# Altium footprint library Connector_Footprints.PcbLib: 18 footprints (part 2 of 2)
Each footprint in its own frame and in the unit in brackets; x right, y up, seen from the top. Pads: shape width x height; smd on the part's side, far side on the other; paste and mask are expansions set on the pad; w line width, h text height; cw(c..) or ccw(c..) is an arc to the next point about the centre after c.
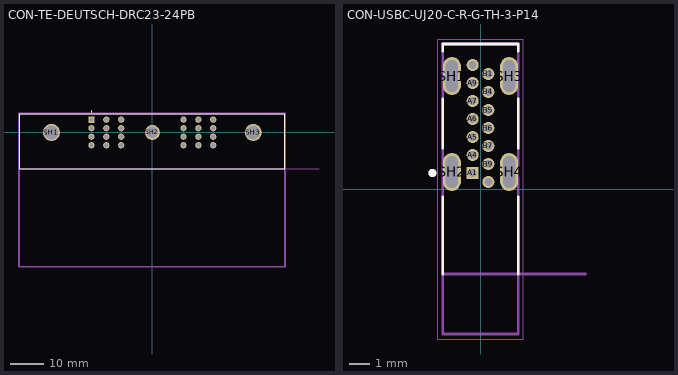
[diagram p1: the footprints below, top view; thin cyan lines are the x and y axes]

## CON-TE-DEUTSCH-DRC23-24PB [mm]
height 38.1
pads (27):
  rect 1.86x1.86 / inner round 1.86 / far side rect 1.86x1.86 hole 1.24: 1(-18.11,3.81)
  round 1.86 hole 1.24: 2(-13.69,3.81) 3(-9.27,3.81) 4(9.27,3.81) 5(13.69,3.81) 6(18.11,3.81) 7(-18.11,1.27) 8(-13.69,1.27) 9(-9.27,1.27) 10(9.27,1.27) 11(13.69,1.27) 12(18.11,1.27) 13(-18.11,-1.27) 14(-13.69,-1.27) 15(-9.27,-1.27) 16(9.27,-1.27) 17(13.69,-1.27) 18(18.11,-1.27) 19(-18.11,-3.81) 20(-13.69,-3.81) 21(-9.27,-3.81) 22(9.27,-3.81) 23(13.69,-3.81) 24(18.11,-3.81)
  round 5.08 hole 4.064: SH1(-30.02,0) SH3(30.02,0)
  round 4.445 hole 3.429: SH2(0,0)
Top Overlay:
  circle w0.2: c-18.11,6.25 r0.1
  lines w0.127: -39.42,-10.8 -39.42,5.59 39.42,5.59 39.42,-10.8 -39.42,-10.8
Mechanical 13:
  circle w0.2: c-18.11,6.25 r0.1
  lines w0.127: 49.58,-10.8 -39.42,-10.8 ; -39.42,-10.8 -39.42,-39.751 39.42,-39.751 39.42,5.59 -39.42,5.59 -39.42,-10.8
  text "PCB EDGE" at 40.64,-10.16 h1.27
Mechanical 15:
  lines w0.05: -39.67,-40.001 -39.67,5.84 39.67,5.84 39.67,-40.001 -39.67,-40.001
3D body "step_temp.STEP": height 36.07, standoff -3.56, extent -39.421,-39.751 39.421,5.588

## CON-USBC-UJ20-C-R-G-TH-3-P14 [mm]
height 9.04
pads (18):
  rect 0.6x0.6 / inner round 0.6 / far side rect 0.6x0.6 hole 0.4: A1(-0.39,0.8)
  round 0.6 hole 0.4: A4(-0.39,1.7) A5(-0.39,2.6) A6(-0.39,3.5) A7(-0.39,4.4) A9(-0.39,5.3) A12(-0.39,6.2) B1(0.39,5.75) B4(0.39,4.85) B5(0.39,3.95) B6(0.39,3.05) B7(0.39,2.15) B9(0.39,1.25) B12(0.39,0.35)
  oval 0.9x1.9 hole 0.6 slot 1.6 at 90 deg: SH1(-1.43,5.65) SH2(-1.43,0.85) SH3(1.43,5.65) SH4(1.43,0.85)
Top Overlay:
  circle w0.2: c-2.4,0.8 r0.1
  lines w0.127: -1.88,-4.25 -1.88,-0.4 ; -1.88,2.05 -1.88,4.5 ; -1.88,6.9 -1.88,7.25 1.88,7.25 1.88,6.9 ; 1.88,-4.25 1.88,-0.4 ; 1.88,2.05 1.88,4.5
Mechanical 13:
  circle w0.2: c-2.4,0.8 r0.1
  lines w0.127: 5.25,-4.25 1.88,-4.25 ; -1.88,-4.25 1.88,-4.25 ; -1.88,-4.25 -1.88,-7.25 1.88,-7.25 1.88,-4.25 ; -1.88,-4.25 -1.88,7.25 1.88,7.25 1.88,-4.25
  text "PCB EDGE" at 2.2,-4.1 h0.9
Mechanical 15:
  lines w0.05: -2.13,-7.5 2.13,-7.5 2.13,7.5 -2.13,7.5 -2.13,-7.5
3D body "UJ20-C-R-G-TH-3-P14.STEP": height 11.63, standoff -1.84, extent -1.88,-7.244 1.88,7.406